# Altium footprint library PCB - RF BALUN - TTM BD3150L50100AHF.PcbLib: 1 footprints
Each footprint in its own frame and in the unit in brackets; x right, y up, seen from the top. Pads: shape width x height; smd on the part's side, far side on the other; paste and mask are expansions set on the pad; w line width, h text height; cw(c..) or ccw(c..) is an arc to the next point about the centre after c.
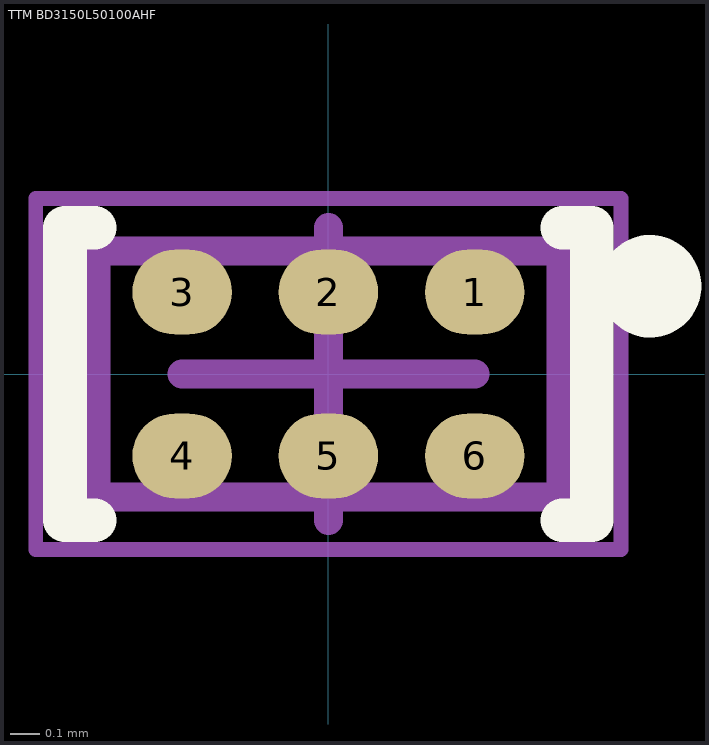
[diagram p0: the footprint, top view; thin cyan lines are the x and y axes]

## TTM BD3150L50100AHF [mm] "6-Leads, Body 1.59x0.84mmx0.74mm, Pitch 0.50mm"
height 0.74
pads (6):
  oval 0.34x0.29 smd mask+0.03: 1(0.5,0.28) 2(0,0.28) 3(-0.5,0.28) 4(-0.5,-0.28) 5(0,-0.28) 6(0.5,-0.28)
Top Overlay:
  circle w0.2: c1.1,0.3 r0.075
  lines w0.15: -0.8,-0.5 -0.9,-0.5 -0.9,0.5 -0.8,0.5 ; 0.8,-0.5 0.9,-0.5 0.9,0.5 0.8,0.5
Mechanical 13:
  lines w0.1: -0.795,-0.42 0.795,-0.42 0.795,0.42 -0.795,0.42 -0.795,-0.42
Mechanical 15:
  lines w0.05: -1,-0.6 1,-0.6 1,0.6 -1,0.6 -1,-0.6
  lines w0.1: -0.5,0 0.5,0 ; 0,-0.5 0,0.5
3D body "TTM BD3150L50100AHF.step": height 0.74, standoff 0, extent -0.845,-0.47 0.845,0.47